# EAGLE library part STSPIN220_STEPSTICK (library STSPIN220)
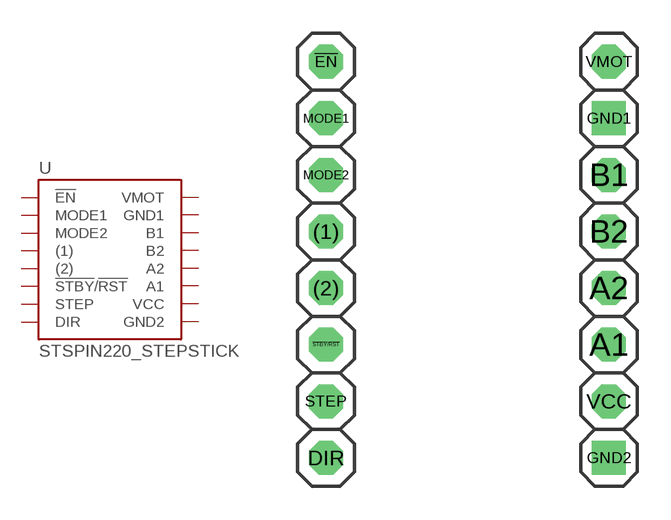
[diagram p0: symbol with the pads of STEPSTICK; footprint STEPSTICK]

Designator prefix U

## STSPIN220_STEPSTICK  [STEPSTICK]
!EN!  !EN!
!STBY!/!RST!  !STBY!/!RST!
(1)  (1)
(2)  (2)
A1  A1
A2  A2
B1  B1
B2  B2
DIR  DIR
GND1  GND1
GND2  GND2
MODE1  MODE1
MODE2  MODE2
STEP  STEP
VCC  VCC
VMOT  VMOT

## Footprint STEPSTICK (pad centres in mm)
STSPIN220 stepstick
drill 1.016 octagon: !EN! -6.35,8.89; !STBY!/!RST! -6.35,-3.81; (1) -6.35,1.27; (2) -6.35,-1.27; A1 6.35,-3.81; A2 6.35,-1.27; B1 6.35,3.81; B2 6.35,1.27; DIR -6.35,-8.89; MODE1 -6.35,6.35; MODE2 -6.35,3.81; STEP -6.35,-6.35; VCC 6.35,-6.35; VMOT 6.35,8.89
drill 1.016 square: GND1 6.35,6.35; GND2 6.35,-8.89